# Altium integrated library Coil.IntLib: 1 symbol
Pins are listed as number, name and electrical type; pins without a type are passive.

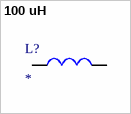
[diagram p0: symbol 100 uH]

## 100 uH
designator L?
L1206
footprint L1206
pins: 1, 2